# EAGLE library part MCV8 (library con-phoenix-381_l)
Mini-Combicon 3.81mm vertikal 8polig (ohne Gegenstecker)
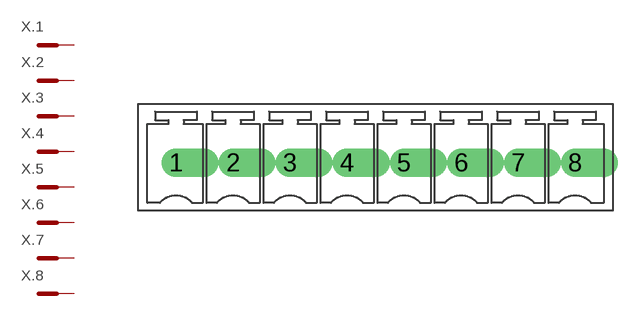
[diagram p2: symbol with the pads of MCV8; footprint MCV8]

Designator prefix X; gates .1=MCST .2=MCST .3=MCST .4=MCST .5=MCST .6=MCST .7=MCST .8=MCST

## MCV8  [MCV8]
1  .1:SK  pas
2  .2:SK  pas
3  .3:SK  pas
4  .4:SK  pas
5  .5:SK  pas
6  .6:SK  pas
7  .7:SK  pas
8  .8:SK  pas

## Footprint MCV8 (pad centres in mm)
Mini-Combicon 3.81mm vertikal 8-polig (ohne Gegenstecker)
drill 1.27 pad 1.905 offset: 1 -13.335,0; 2 -9.525,0; 3 -5.715,0; 4 -1.905,0; 5 1.905,0; 6 5.715,0; 7 9.525,0; 8 13.335,0